# EAGLE library part STM32F767 (library My_STM32F767)
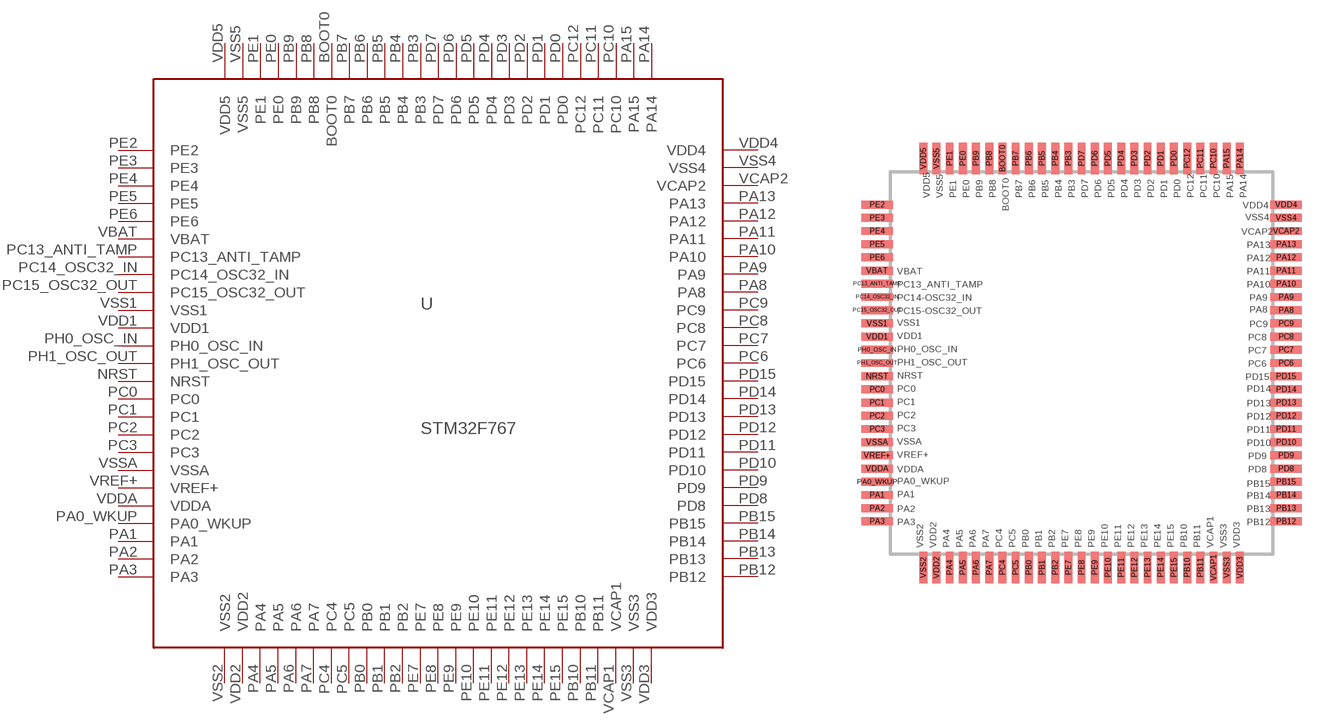
[diagram p2: symbol with the pads of STM32F767; footprint STM32F767]

Designator prefix -

## STM32F767  [STM32F767]
BOOT0  BOOT0
NRST  NRST
PA0_WKUP  PA0_WKUP
PA1  PA1
PA2  PA2
PA3  PA3
PA4  PA4
PA5  PA5
PA6  PA6
PA7  PA7
PA8  PA8
PA9  PA9
PA10  PA10
PA11  PA11
PA12  PA12
PA13  PA13
PA14  PA14
PA15  PA15
PB0  PB0
PB1  PB1
PB2  PB2
PB3  PB3
PB4  PB4
PB5  PB5
PB6  PB6
PB7  PB7
PB8  PB8
PB9  PB9
PB10  PB10
PB11  PB11
PB12  PB12
PB13  PB13
PB14  PB14
PB15  PB15
PC0  PC0
PC1  PC1
PC2  PC2
PC3  PC3
PC4  PC4
PC5  PC5
PC6  PC6
PC7  PC7
PC8  PC8
PC9  PC9
PC10  PC10
PC11  PC11
PC12  PC12
PC13_ANTI_TAMP  PC13_ANTI_TAMP
PC14_OSC32_IN  PC14_OSC32_IN
PC15_OSC32_OUT  PC15_OSC32_OUT
PD0  PD0
PD1  PD1
PD2  PD2
PD3  PD3
PD4  PD4
PD5  PD5
PD6  PD6
PD7  PD7
PD8  PD8
PD9  PD9
PD10  PD10
PD11  PD11
PD12  PD12
PD13  PD13
PD14  PD14
PD15  PD15
PE0  PE0
PE1  PE1
PE2  PE2
PE3  PE3
PE4  PE4
PE5  PE5
PE6  PE6
PE7  PE7
PE8  PE8
PE9  PE9
PE10  PE10
PE11  PE11
PE12  PE12
PE13  PE13
PE14  PE14
PE15  PE15
PH0_OSC_IN  PH0_OSC_IN
PH1_OSC_OUT  PH1_OSC_OUT
VBAT  VBAT
VCAP1  VCAP1
VCAP2  VCAP2
VDD1  VDD1
VDD2  VDD2
VDD3  VDD3
VDD4  VDD4
VDD5  VDD5
VDDA  VDDA
VREF+  VREF+
VSS1  VSS1
VSS2  VSS2
VSS3  VSS3
VSS4  VSS4
VSS5  VSS5
VSSA  VSSA

## Footprint STM32F767 (pad centres in mm)
smd 0.3 x 1.2: BOOT0 -3,7.75; PA4 -5,-7.75; PA5 -4.5,-7.75; PA6 -4,-7.75; PA7 -3.5,-7.75; PA14 6,7.75; PA15 5.5,7.75; PB0 -2,-7.75; PB1 -1.5,-7.75; PB2 -1,-7.75; PB3 -0.5,7.75; PB4 -1,7.75; PB5 -1.5,7.75; PB6 -2,7.75; PB7 -2.5,7.75; PB8 -3.5,7.75; PB9 -4,7.75; PB10 4,-7.75; PB11 4.5,-7.75; PC4 -3,-7.75; PC5 -2.5,-7.75; PC10 5,7.75; PC11 4.5,7.75; PC12 4,7.75; PD0 3.5,7.75; PD1 3,7.75; PD2 2.5,7.75; PD3 2,7.75; PD4 1.5,7.75; PD5 1,7.75; PD6 0.5,7.75; PD7 0,7.75; PE0 -4.5,7.75; PE1 -5,7.75; PE7 -0.5,-7.75; PE8 0,-7.75; PE9 0.5,-7.75; PE10 1,-7.75; PE11 1.5,-7.75; PE12 2,-7.75; PE13 2.5,-7.75; PE14 3,-7.75; PE15 3.5,-7.75; VCAP1 5,-7.75; VDD2 -5.5,-7.75; VDD3 6,-7.75; VDD5 -6,7.75; VSS2 -6,-7.75; VSS3 5.5,-7.75; VSS5 -5.5,7.75
smd 1.2 x 0.3: NRST -7.75,-0.5; PA0_WKUP -7.75,-4.5; PA1 -7.75,-5; PA2 -7.75,-5.5; PA3 -7.75,-6; PA8 7.75,2; PA9 7.75,2.5; PA10 7.75,3; PA11 7.75,3.5; PA12 7.75,4; PA13 7.75,4.5; PB12 7.75,-6; PB13 7.75,-5.5; PB14 7.75,-5; PB15 7.75,-4.5; PC0 -7.75,-1; PC1 -7.75,-1.5; PC2 -7.75,-2; PC3 -7.75,-2.5; PC6 7.75,0; PC7 7.75,0.5; PC8 7.75,1; PC9 7.75,1.5; PC13_ANTI_TAMP -7.75,3; PC14_OSC32_IN -7.75,2.5; PC15_OSC32_OUT -7.75,2; PD8 7.75,-4; PD9 7.75,-3.5; PD10 7.75,-3; PD11 7.75,-2.5; PD12 7.75,-2; PD13 7.75,-1.5; PD14 7.75,-1; PD15 7.75,-0.5; PE2 -7.75,6; PE3 -7.75,5.5; PE4 -7.75,5; PE5 -7.75,4.5; PE6 -7.75,4; PH0_OSC_IN -7.75,0.5; PH1_OSC_OUT -7.75,0; VBAT -7.75,3.5; VCAP2 7.75,5; VDD1 -7.75,1; VDD4 7.75,6; VDDA -7.75,-4; VREF+ -7.75,-3.5; VSS1 -7.75,1.5; VSS4 7.75,5.5; VSSA -7.75,-3